# Altium footprint library SM_LED_4PLCC_3528_2Color_CACA.PcbLib: 1 footprints
Each footprint in its own frame and in the unit in brackets; x right, y up, seen from the top. Pads: shape width x height; smd on the part's side, far side on the other; paste and mask are expansions set on the pad; w line width, h text height; cw(c..) or ccw(c..) is an arc to the next point about the centre after c.
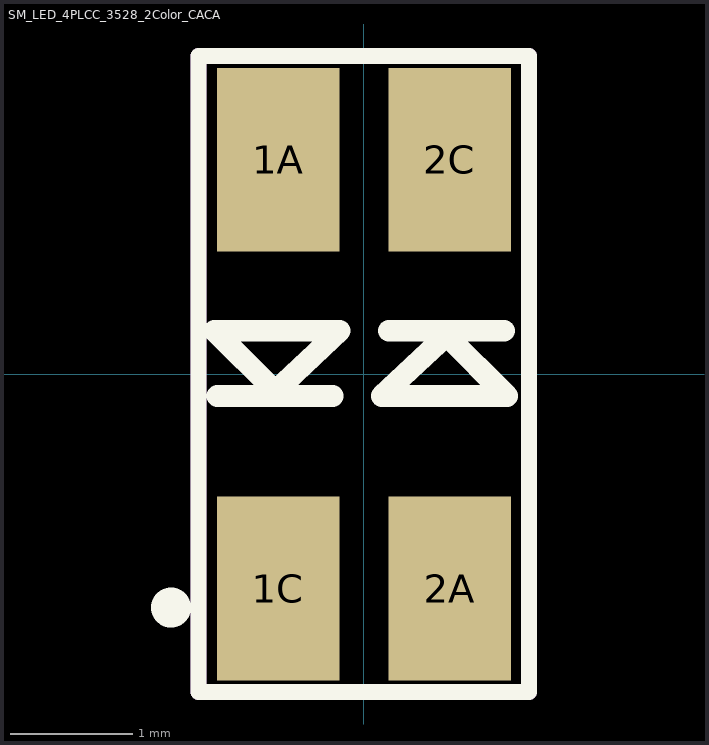
[diagram p0: the footprint, top view; thin cyan lines are the x and y axes]

## SM_LED_4PLCC_3528_2Color_CACA [mm]
height 1.956
pads (4):
  rect 1x1.499 smd: 1A(-0.7,1.75) 1C(-0.7,-1.75) 2A(0.7,-1.75) 2C(0.7,1.75)
Top Overlay:
  circle w0.254: c-1.575,-1.905 r0.036
  lines w0.13: -1.349,-2.596 -1.349,2.599 1.348,2.599 1.348,0.751 1.348,-2.596 -1.349,-2.596
  lines w0.178: -1.194,-0.178 -0.254,-0.178 ; -0.723,-0.141 -1.219,0.356 -0.196,0.356 -0.711,-0.127 ; 0.203,0.356 1.143,0.356 ; 0.66,0.305 0.146,-0.178 1.168,-0.178 0.672,0.319
Mechanical 2:
  lines w0.13: -1.349,-2.596 -1.349,2.599 1.348,2.599 1.348,-2.596 -1.349,-2.596
3D body "User Library-KAA-3528.STEP": height 1.9, standoff 0, extent -1.4,-1.75 1.4,1.75